# Altium footprint library Rover_Science_Card_V1.PcbLib: 9 footprints
Each footprint in its own frame and in the unit in brackets; x right, y up, seen from the top. Pads: shape width x height; smd on the part's side, far side on the other; paste and mask are expansions set on the pad; w line width, h text height; cw(c..) or ccw(c..) is an arc to the next point about the centre after c.
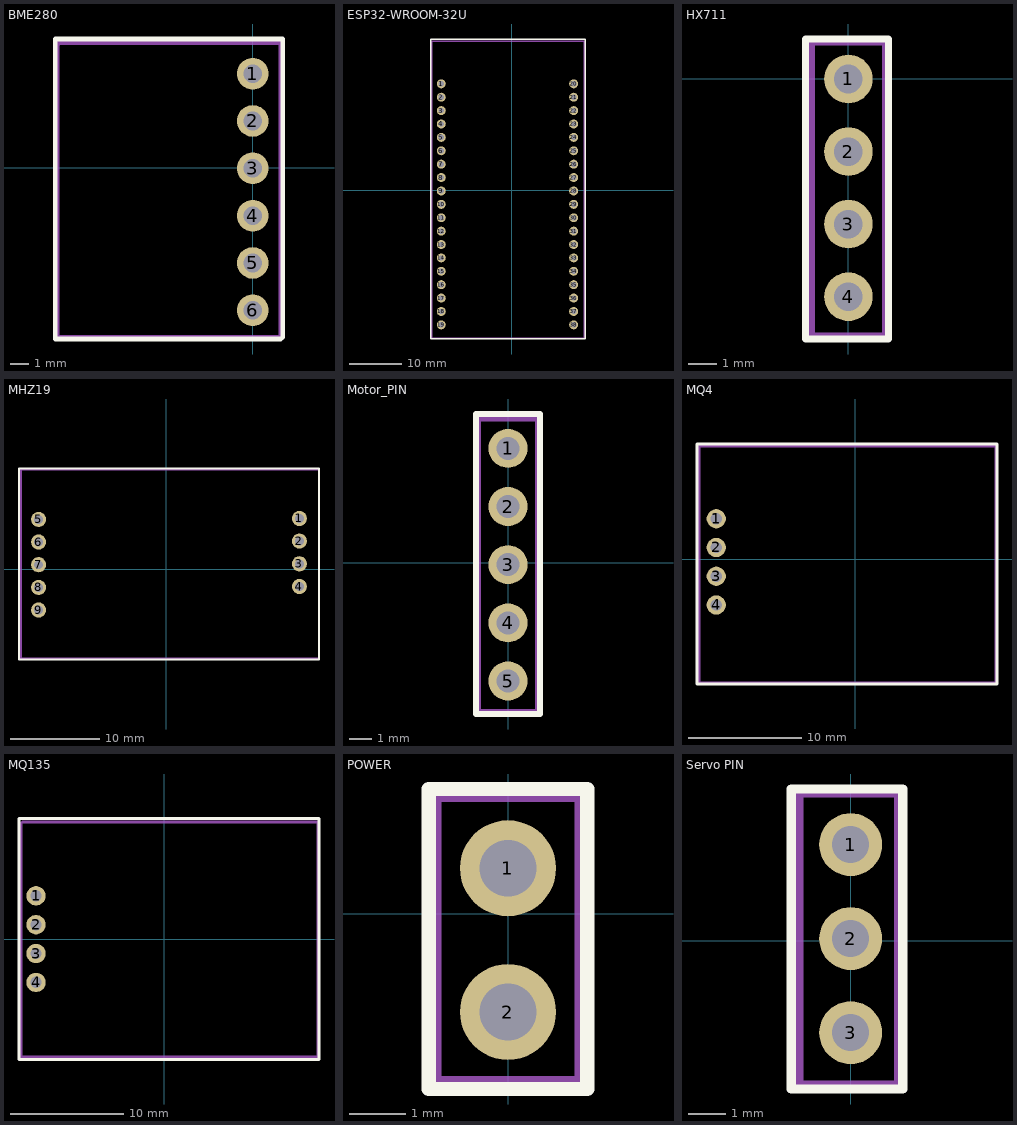
[diagram p0: the footprints below, top view; thin cyan lines are the x and y axes]

## BME280 [mm] "Temperature-Humidity-Altidute"
pads (6):
  round 1.7 hole 1: 1(0,5.04) 2(0,2.5) 3(0,-0.04) 4(0,-2.58) 5(0,-5.12) 6(0,-7.66)
Top Overlay:
  lines w0.254: -10.6,-9.2 1.5,-9.2 1.6,-9.1 1.6,6.9 -10.6,6.9 -10.6,-9.2
Mechanical 3:
  lines w0.254: 1.4,-9.1 -10.3,-9.1 -10.5,-9.1 -10.5,6.6 -10.4,6.7 1.5,6.7 1.5,-9
3D body "User Library-Module_bme280.STEP": height 6.3, standoff -4.9, extent -10.25,-8.9 1.25,6.44

## ESP32-WROOM-32U [mm] "Microcontroller"
pads (38):
  round 1.7 hole 1: 1(-13.4,20.2) 2(-13.4,17.66) 3(-13.4,15.12) 4(-13.4,12.58) 5(-13.4,10.04) 6(-13.4,7.5) 7(-13.4,4.96) 8(-13.4,2.42) 9(-13.4,-0.12) 10(-13.4,-2.66) 11(-13.4,-5.2) 12(-13.4,-7.74) 13(-13.4,-10.28) 14(-13.4,-12.82) 15(-13.4,-15.36) 16(-13.4,-17.9) 17(-13.4,-20.44) 18(-13.4,-22.98) 19(-13.4,-25.52) 20(11.7,20.2) 21(11.7,17.66) 22(11.7,15.12) 23(11.7,12.58) 24(11.7,10.04) 25(11.7,7.5) 26(11.7,4.96) 27(11.7,2.42) 28(11.7,-0.12) 29(11.7,-2.66) 30(11.7,-5.2) 31(11.7,-7.74) 32(11.7,-10.28) 33(11.7,-12.82) 34(11.7,-15.36) 35(11.7,-17.9) 36(11.7,-20.44) 37(11.7,-22.98) 38(11.7,-25.52)
Top Overlay:
  lines w0.254: -15.4,-28.2 13.9,-28.2 13.9,28.7 -15.4,28.7 -15.4,-28.2
Mechanical 3:
  lines w0.254: -15.2,-28.1 -15.2,28.3 13.7,28.3 13.7,-28.1 -15.2,-28.1
3D body "ESP32-DEVKITC-32D--3DModel-STEP-269445.STEP": height 6.69, standoff -6, extent -14.77,-27.5 13.17,27.6

## HX711 [mm] "Load Cell Censor"
pads (4):
  round 1.7 hole 1: 1(0,0) 2(0,-2.54) 3(0,-5.08) 4(0,-7.62)
Top Overlay:
  lines w0.254: -1.5,-9.1 1.4,-9.1 1.4,1.4 -1.5,1.4 -1.5,-9.1
Mechanical 3:
  lines w0.254: -1.3,-9 1.3,-9 1.3,1.3 -1.3,1.3 -1.3,-9
3D body "User Library-Header_Male_2Pin.STEP": height 8.54, standoff -3, extent -1.29,-8.88 1.2,-3.8
3D body "User Library-Header_Male_2Pin.STEP": height 8.54, standoff -3, extent -1.29,-3.8 1.2,1.28

## MHZ19 [mm] "CO2 Sensor"
pads (9):
  round 1.7 hole 1: 1(14.9,5.7) 2(14.9,3.16) 3(14.9,0.62) 4(14.9,-1.92) 5(-14.3,5.6) 6(-14.3,3.06) 7(-14.3,0.52) 8(-14.3,-2.02) 9(-14.3,-4.56)
Top Overlay:
  lines w0.254: -16.5,-10.1 17.1,-10.1 17.1,11.3 -16.5,11.3 -16.5,-10.1
Mechanical 3:
  lines w0.254: -16.3,-10 17.1,-10 17.1,-9.4 17.1,11.1 17,11.2 -16.3,11.2 -16.3,-10
3D body "User Library-Winsen - MH-Z19.step": height 9, standoff 0, extent -15.87,-9.2 16.7,10.55

## Motor_PIN [mm]
pads (5):
  round 1.7 hole 1: 1(0,5) 2(0,2.46) 3(0,-0.08) 4(0,-2.62) 5(0,-5.16)
Top Overlay:
  lines w0.254: -1.4,-6.6 -1.4,6.5 1.4,6.5 1.4,-6.5 1.4,-6.6 -1.4,-6.6
Mechanical 3:
  lines w0.254: -1.3,-6.5 1.3,-6.5 1.3,6.3 -1.3,6.3 -1.3,-6.5
3D body "User Library-Header_Male_5Pin.STEP": height 8.54, standoff -3, extent -1.245,-6.43 1.245,6.27

## MQ4 [mm] "CH4 Sensor"
pads (4):
  round 1.7 hole 1: 1(-12.3,3.6) 2(-12.3,1.06) 3(-12.3,-1.48) 4(-12.3,-4.02)
Top Overlay:
  lines w0.254: -14,-11 -14,10.2 12.5,10.2 12.5,-11 -14,-11
Mechanical 3:
  lines w0.254: -13.8,-10.9 12.4,-10.9 12.4,10 -13.4,10 -13.8,10 -13.8,-10.9
3D body "User Library-Sensor MQ-4.STEP": height 33, standoff -2.9, extent -13.4,-10.3 12.1,9.7

## MQ135 [mm]
pads (4):
  round 1.7 hole 1: 1(-11.3,3.8) 2(-11.3,1.26) 3(-11.3,-1.28) 4(-11.3,-3.82)
Top Overlay:
  lines w0.254: -12.8,-10.6 13.6,-10.6 13.6,10.4 13.6,10.6 -12.8,10.6 -12.8,-10.6
Mechanical 3:
  lines w0.254: -12.6,-10.4 -12.3,-10.4 13.5,-10.4 13.5,10.3 -12.5,10.3 -12.6,10.2 -12.6,-10.1 -12.6,-10.3
3D body "User Library-Sensor MQ-4.STEP": height 33, standoff -2.9, extent -12.3,-10 13.2,10

## POWER [mm] "5V-GND"
pads (2):
  round 1.7 hole 1: 1(0,0.8) 2(0,-1.74)
Top Overlay:
  lines w0.254: -1.4,-3.1 -1.4,2.2 1.4,2.2 1.4,-3.1 -1.4,-3.1
Mechanical 3:
  lines w0.254: -1.3,-3 -1.3,2.1 1.3,2.1 1.3,-3 -1.3,-3
3D body "User Library-Header_Male_2Pin.STEP": height 8.54, standoff -3, extent -1.245,-3.01 1.245,2.07

## Servo PIN [mm]
pads (3):
  round 1.7 hole 1: 1(0,2.6) 2(0,0.06) 3(0,-2.48)
Top Overlay:
  lines w0.254: -1.6,-4 1.4,-4 1.4,4.1 -1.6,4.1 -1.6,-4
Mechanical 3:
  lines w0.254: -1.4,-3.9 -1.4,4 1.3,4 1.3,-3.9 -1.3,-3.9
3D body "User Library-Pin Header 3Pin-2_54mm.STEP": height 15.75, standoff -2.79, extent -1.3,-3.873 1.24,3.873